# Altium schematic symbol library SCH - FET - P-CH - GENERIC.SCHLIB: 1 symbol
Pins are listed as number, name and electrical type; pins without a type are passive.

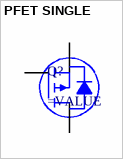
[diagram p0: symbol PFET SINGLE]

## PFET SINGLE
designator Q?
pins: D, G, S